# Altium footprint library RocketFPGA.PcbLib: 23 footprints (part 1 of 2)
Each footprint in its own frame and in the unit in brackets; x right, y up, seen from the top. Pads: shape width x height; smd on the part's side, far side on the other; paste and mask are expansions set on the pad; w line width, h text height; cw(c..) or ccw(c..) is an arc to the next point about the centre after c.
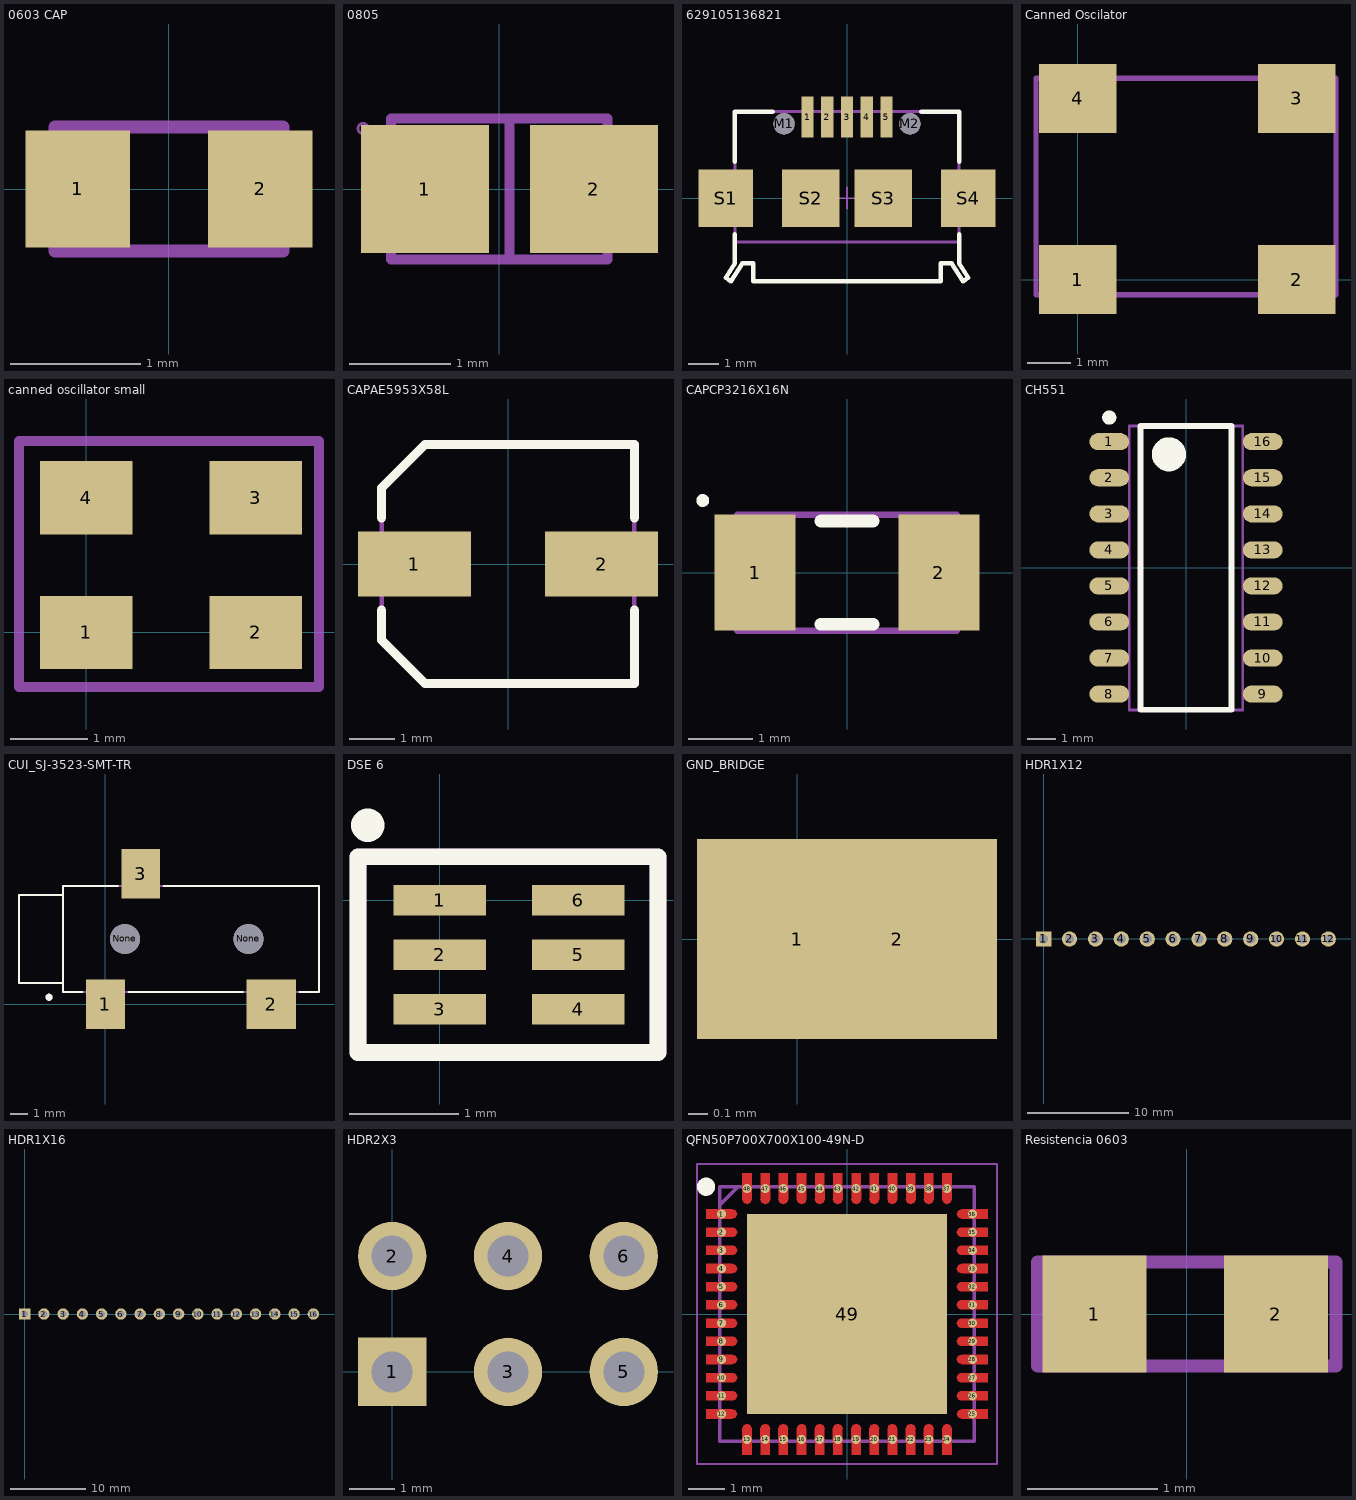
[diagram p0: the footprints below, top view; thin cyan lines are the x and y axes]

## 0603 CAP [mm] "Chip Capacitor, Body 1.6x0.8mm, IPC High Density"
height 1.3
pads (2):
  rect 0.8x0.9 smd: 1(-0.7,0) 2(0.7,0)
Assembly Top (Mech3):
  lines w0.1: -0.875,-0.475 0.875,-0.475 0.875,0.475 -0.875,0.475 -0.875,-0.475
  text "'.Designator'" at -0.584,-0.127 h0.25
3D body "User Library-SMD CAPACITOR0603.STEP": height 0.78, standoff -0.02, extent -0.8,-0.4 0.8,0.4

## 0805 [mil]
height 169.29
pads (2):
  rect 50x50 smd: 1(-29,0) 2(37,0)
Assembly Top (Mech3):
  circle w1: c-53.15,23.62 r2
  lines w3.94: 4,-27 4,27 ; -42.32,-27.56 42.32,-27.56 42.32,27.56 -42.32,27.56 -42.32,-27.56
  text "'.Designator'" at -20,-10 h20
3D body "CircuitWorks-RESISTOR 0805.step": height 16.93, standoff -1.18, extent -36.37,-24.61 42.37,25

## 629105136821 [mm] "Micro USB 2.0 SMT Type B Horizontal 5 Contacts"
height 3
pads (11):
  rect 0.4x1.35 smd: 1(-1.3,2.675) 2(-0.65,2.675) 3(0,2.675) 4(0.65,2.675) 5(1.3,2.675)
  round 0.7 hole 0.7 unplated: M1(-2.075,2.45) M2(2.075,2.45)
  rect 1.8x1.9 smd: S1(-4,0) S4(4,0)
  rect 1.9x1.9 smd: S2(-1.2,0) S3(1.2,0)
Top Overlay:
  lines w0.15: -3.7,-1.2 -3.7,-2.15 -4,-2.625 -3.825,-2.75 -3.45,-2.15 -3.1,-2.15 -3.1,-2.75 3.1,-2.75 3.1,-2.15 3.45,-2.15 3.825,-2.75 4,-2.625 3.7,-2.15 3.7,-1.2 ; -3.7,1.2 -3.7,2.85 -2.45,2.85 ; 2.45,2.85 3.7,2.85 3.7,1.2
Mechanical 1:
  lines w0.1: -3.7,-1.45 3.7,-1.45 ; -4,-2.625 -3.7,-2.15 -3.7,2.85 3.7,2.85 3.7,-2.15 4,-2.625 3.825,-2.75 3.45,-2.15 3.1,-2.15 3.1,-2.75 -3.1,-2.75 -3.1,-2.15 -3.45,-2.15 -3.825,-2.75 -4,-2.625
  text "PCB Edge" at -1.4,-2.1 h0.76
Assembly Top (Mech3):
  lines w0.1: -3.7,-1.45 3.7,-1.45 ; -4,-2.625 -3.7,-2.15 -3.7,2.85 3.7,2.85 3.7,-2.15 4,-2.625 3.825,-2.75 3.45,-2.15 3.1,-2.15 3.1,-2.75 -3.1,-2.75 -3.1,-2.15 -3.45,-2.15 -3.825,-2.75 -4,-2.625
  text "'.Designator'" at -2.311,-0.254 h1.52
Mechanical 15:
  lines w0.05: -0.35,0 0.35,0 ; 0,-0.35 0,0.35
3D body "629105136821.stp": height 2.77, standoff -0.53, extent -4,-2.73 4,3.173

## Canned Oscilator [mm]
pads (4):
  rect 1.8x1.6 smd: 1(0,0) 2(5.08,0) 3(5.08,4.2) 4(0,4.2)
Assembly Top (Mech3):
  lines w0.127: 5.918,4.648 cw(c5.944,4.648) 5.944,4.674 ; -0.965,-0.356 -0.965,4.674 5.994,4.674 5.994,-0.356 -0.965,-0.356
  text "'.Designator'" at 0.406,1.702 h1.52
3D body "User Library-CFPS-73.step": height 1.52, standoff 0, extent -1,-0.41 6,4.61

## canned oscillator small [mm] "SG-8018CG 49.1520M-TJHSA3"
pads (4):
  rect 1.2x0.95 smd: 1(0,0) 2(2.2,0) 3(2.2,1.75) 4(0,1.75)
Assembly Top (Mech3):
  lines w0.127: -0.876,-0.711 3.024,-0.711 3.024,2.489 -0.876,2.489 -0.876,-0.711

## CAPAE5953X58L [mm] "Aluminum Electrolytic Capacitor, Body 5.60x5.30x5.80mm, IPC High Density"
height 5.8
pads (2):
  rect 2.5x1.45 smd: 1(-2.075,0) 2(2.075,0)
Top Overlay:
  lines w0.2: -2.8,-1.025 -2.8,-1.687 -1.837,-2.65 2.8,-2.65 2.8,-1.025 ; -2.8,1.025 -2.8,1.687 -1.837,2.65 2.8,2.65 2.8,1.025
Assembly Top (Mech3):
  lines w0.1: -2.8,-1.687 -2.8,1.687 -1.837,2.65 2.8,2.65 2.8,-2.65 -1.837,-2.65 -2.8,-1.687
  text "'.Designator'" at -1.473,-0.686 h1.52
3D body: height 5.8, standoff 0, extent -2.5,-2.5 2.5,2.494
3D body: height 1.94, standoff 0, extent -2.8,-2.65 2.8,2.65

## CAPCP3216X16N [mm] "Chip Capacitor, 2-Leads, Body 3.20x1.60mm, IPC Medium Density"
height 1.6
pads (2):
  rect 1.25x1.8 smd: 1(-1.425,0) 2(1.425,0)
Top Overlay:
  circle w0.1: c-2.235,1.118 r0.05
  lines w0.2: -0.4,-0.8 0.4,-0.8 ; -0.4,0.8 0.4,0.8
Assembly Top (Mech3):
  lines w0.1: -1.7,-0.9 -1.7,0.9 1.7,0.9 1.7,-0.9 -1.7,-0.9
  text "'.Designator'" at -1.143,-0.533 h1.02
3D body: height 1.6, standoff 0, extent -1.7,-0.9 -1,0.9
3D body: height 1.6, standoff 0, extent -1,-0.9 1,0.9
3D body: height 1.6, standoff 0, extent 1,-0.9 1.7,0.9

## CH551 [mm] "MCU"
height 1.75
pads (16):
  oval 1.4x0.6 smd: 1(-2.7,4.445) 2(-2.7,3.175) 3(-2.7,1.905) 4(-2.7,0.635) 5(-2.7,-0.635) 6(-2.7,-1.905) 7(-2.7,-3.175) 8(-2.7,-4.445) 9(2.7,-4.445) 10(2.7,-3.175) 11(2.7,-1.905) 12(2.7,-0.635) 13(2.7,0.635) 14(2.7,1.905) 15(2.7,3.175) 16(2.7,4.445)
Top Overlay:
  circle w0.6: c-0.6,4 r0.3
  circle w0.25: c-2.7,5.295 r0.125
  lines w0.2: -1.6,-5 1.6,-5 1.6,5 -1.6,5 -1.6,-5
Top Solder:
  circle w0.1: c-1.1,4.1 r0.5
Assembly Top (Mech3):
  lines w0.1: -2,-5 2,-5 2,5 -2,5 -2,-5
  text "'.Designator'" at 0.762,-2.413 h1.52
3D body "CircuitWorks-SO-16.step": height 1.45, standoff 0, extent -3.035,-5.016 2.87,4.966
3D body: height 0.25, standoff 0, extent -6.756,7.518 -6.756,7.518

## CUI_SJ-3523-SMT-TR [mm] "mini jack"
pads (5):
  rect 2.2x2.8 smd: 1(0,0) 3(2,7.4)
  rect 2.8x2.8 smd: 2(9.4,0)
  round 1.7 hole 1.7 unplated: None(1.1,3.7) None(8.1,3.7)
Top Overlay:
  circle w0.2: c-3.2,0.4 r0.1
  lines w0.127: -1.3,0.7 -2.4,0.7 -2.4,1.2 ; 0.7,6.7 -2.4,6.7 -2.4,6.2 ; 1.3,0.7 7.8,0.7 ; 3.3,6.7 12.1,6.7 12.1,0.7 11,0.7 ; -2.4,1.2 -4.9,1.2 -4.9,6.2 -2.4,6.2 ; -2.4,1.2 -2.4,6.2
Assembly Top (Mech3):
  circle w0.2: c-3.2,0.4 r0.1
  circle w0.2: c-3.2,0.4 r0.1
  lines w0.127: -4.9,1.2 -4.9,6.2 ; -4.9,1.2 -4.9,6.2 ; -4.9,1.2 -2.4,1.2 -4.9,1.2 ; -4.9,6.2 -2.4,6.2 -4.9,6.2 ; -2.4,0.7 -2.4,6.7 ; -2.4,0.7 -2.4,6.7 ; -2.4,0.7 12.1,0.7 ; -2.4,0.7 12.1,0.7 ; -2.4,6.7 12.1,6.7 ; -2.4,6.7 12.1,6.7 ; 12.1,0.7 12.1,6.7 ; 12.1,0.7 12.1,6.7
  text "'.Designator'" at 0.313,3.116 h1.52
3D body "CUI_SJ-3523-SMT-TR.step": height 5, standoff -0.8, extent -4.835,-0.77 12.165,8.23

## DSE 6 [mm] "DSE PACKAGE"
pads (6):
  rect 0.85x0.28 smd mask+0.05: 1(0,0) 2(0,-0.5) 3(0,-1) 4(1.27,-1) 5(1.27,-0.5) 6(1.27,0)
Top Overlay:
  circle w0.254: c-0.66,0.686 r0.025
  lines w0.152: -0.737,0.398 -0.75,0.398 ; -0.75,0.398 -0.75,-1.397 2,-1.397 2,0.398 -0.75,0.398
Assembly Top (Mech3):
  lines w0.152: -0.737,0.398 -0.75,0.398 ; -0.75,0.398 2,0.398 2,-1.397 -0.75,-1.397 -0.75,0.398
  text "'.Designator'" at -0.102,-0.838 h0.76
3D body: height 0.8, standoff 0, extent -0.533,-1.245 1.854,0.254

## GND_BRIDGE [mil] "GND_BRIDGE"
pads (2):
  rect 40x40 smd: 1(0,0) 2(20,0)

## HDR1X12 [mm] "Connector; Header; 12 Position"
pads (12):
  rect 1.5x1.5 hole 0.9: 1(0,0)
  round 1.5 hole 0.9: 2(2.54,0) 3(5.08,0) 4(7.62,0) 5(10.16,0) 6(12.7,0) 7(15.24,0) 8(17.78,0) 9(20.32,0) 10(22.86,0) 11(25.4,0) 12(27.94,0)

## HDR1X16 [mm] "Connector; Header; 16 Position"
pads (16):
  rect 1.5x1.5 hole 0.9: 1(0,0)
  round 1.5 hole 0.9: 2(2.54,0) 3(5.08,0) 4(7.62,0) 5(10.16,0) 6(12.7,0) 7(15.24,0) 8(17.78,0) 9(20.32,0) 10(22.86,0) 11(25.4,0) 12(27.94,0) 13(30.48,0) 14(33.02,0) 15(35.56,0) 16(38.1,0)

## HDR2X3 [mm] "Connector; Header; 3x2 Position"
pads (6):
  rect 1.5x1.5 hole 0.9: 1(0,0)
  round 1.5 hole 0.9: 2(0,2.54) 3(2.54,0) 4(2.54,2.54) 5(5.08,0) 6(5.08,2.54)

## QFN50P700X700X100-49N-D [mm]
pads (49):
  round 0.25 smd: 1(-3.45,2.75) 2(-3.45,2.25) 3(-3.45,1.75) 4(-3.45,1.25) 5(-3.45,0.75) 6(-3.45,0.25) 7(-3.45,-0.25) 8(-3.45,-0.75) 9(-3.45,-1.25) 10(-3.45,-1.75) 11(-3.45,-2.25) 12(-3.45,-2.75) 13(-2.75,-3.45) 14(-2.25,-3.45) 15(-1.75,-3.45) 16(-1.25,-3.45) 17(-0.75,-3.45) 18(-0.25,-3.45) 19(0.25,-3.45) 20(0.75,-3.45) 21(1.25,-3.45) 22(1.75,-3.45) 23(2.25,-3.45) 24(2.75,-3.45) 25(3.45,-2.75) 26(3.45,-2.25) 27(3.45,-1.75) 28(3.45,-1.25) 29(3.45,-0.75) 30(3.45,-0.25) 31(3.45,0.25) 32(3.45,0.75) 33(3.45,1.25) 34(3.45,1.75) 35(3.45,2.25) 36(3.45,2.75) 37(2.75,3.45) 38(2.25,3.45) 39(1.75,3.45) 40(1.25,3.45) 41(0.75,3.45) 42(0.25,3.45) 43(-0.25,3.45) 44(-0.75,3.45) 45(-1.25,3.45) 46(-1.75,3.45) 47(-2.25,3.45) 48(-2.75,3.45)
  rrect0% 5.5x5.5 smd: 49(0,0)
Top Layer:
  region: -3.875,2.875 -3.15,2.885 -3.054,2.846 -3.015,2.75 -3.054,2.654 -3.15,2.615 -3.15,2.625 -3.875,2.625
  region: -3.875,2.375 -3.15,2.385 -3.054,2.346 -3.015,2.25 -3.054,2.154 -3.15,2.115 -3.15,2.125 -3.875,2.125
  region: -3.875,1.875 -3.15,1.885 -3.054,1.846 -3.015,1.75 -3.054,1.654 -3.15,1.615 -3.15,1.625 -3.875,1.625
  region: -3.875,1.375 -3.15,1.385 -3.054,1.346 -3.015,1.25 -3.054,1.154 -3.15,1.115 -3.15,1.125 -3.875,1.125
  region: -3.875,0.875 -3.15,0.885 -3.054,0.846 -3.015,0.75 -3.054,0.654 -3.15,0.615 -3.15,0.625 -3.875,0.625
  region: -3.875,0.375 -3.15,0.385 -3.054,0.346 -3.015,0.25 -3.054,0.154 -3.15,0.115 -3.15,0.125 -3.875,0.125
  region: -3.875,-0.125 -3.15,-0.115 -3.054,-0.154 -3.015,-0.25 -3.054,-0.346 -3.15,-0.385 -3.15,-0.375 -3.875,-0.375
  region: -3.875,-0.625 -3.15,-0.615 -3.054,-0.654 -3.015,-0.75 -3.054,-0.846 -3.15,-0.885 -3.15,-0.875 -3.875,-0.875
  region: -3.875,-1.125 -3.15,-1.115 -3.054,-1.154 -3.015,-1.25 -3.054,-1.346 -3.15,-1.385 -3.15,-1.375 -3.875,-1.375
  region: -3.875,-1.625 -3.15,-1.615 -3.054,-1.654 -3.015,-1.75 -3.054,-1.846 -3.15,-1.885 -3.15,-1.875 -3.875,-1.875
  region: -3.875,-2.125 -3.15,-2.115 -3.054,-2.154 -3.015,-2.25 -3.054,-2.346 -3.15,-2.385 -3.15,-2.375 -3.875,-2.375
  region: -3.875,-2.625 -3.15,-2.615 -3.054,-2.654 -3.015,-2.75 -3.054,-2.846 -3.15,-2.885 -3.15,-2.875 -3.875,-2.875
  region: -2.875,-3.875 -2.885,-3.15 -2.846,-3.054 -2.75,-3.015 -2.654,-3.054 -2.615,-3.15 -2.625,-3.15 -2.625,-3.875
  region: -2.375,-3.875 -2.385,-3.15 -2.346,-3.054 -2.25,-3.015 -2.154,-3.054 -2.115,-3.15 -2.125,-3.15 -2.125,-3.875
  region: -1.875,-3.875 -1.885,-3.15 -1.846,-3.054 -1.75,-3.015 -1.654,-3.054 -1.615,-3.15 -1.625,-3.15 -1.625,-3.875
  region: -1.375,-3.875 -1.385,-3.15 -1.346,-3.054 -1.25,-3.015 -1.154,-3.054 -1.115,-3.15 -1.125,-3.15 -1.125,-3.875
  region: -0.875,-3.875 -0.885,-3.15 -0.846,-3.054 -0.75,-3.015 -0.654,-3.054 -0.615,-3.15 -0.625,-3.15 -0.625,-3.875
  region: -0.375,-3.875 -0.385,-3.15 -0.346,-3.054 -0.25,-3.015 -0.154,-3.054 -0.115,-3.15 -0.125,-3.15 -0.125,-3.875
  region: 0.125,-3.875 0.115,-3.15 0.154,-3.054 0.25,-3.015 0.346,-3.054 0.385,-3.15 0.375,-3.15 0.375,-3.875
  region: 0.625,-3.875 0.615,-3.15 0.654,-3.054 0.75,-3.015 0.846,-3.054 0.885,-3.15 0.875,-3.15 0.875,-3.875
  region: 1.125,-3.875 1.115,-3.15 1.154,-3.054 1.25,-3.015 1.346,-3.054 1.385,-3.15 1.375,-3.15 1.375,-3.875
  region: 1.625,-3.875 1.615,-3.15 1.654,-3.054 1.75,-3.015 1.846,-3.054 1.885,-3.15 1.875,-3.15 1.875,-3.875
  region: 2.125,-3.875 2.115,-3.15 2.154,-3.054 2.25,-3.015 2.346,-3.054 2.385,-3.15 2.375,-3.15 2.375,-3.875
  region: 2.625,-3.875 2.615,-3.15 2.654,-3.054 2.75,-3.015 2.846,-3.054 2.885,-3.15 2.875,-3.15 2.875,-3.875
  region: 3.875,-2.875 3.15,-2.885 3.054,-2.846 3.015,-2.75 3.054,-2.654 3.15,-2.615 3.15,-2.625 3.875,-2.625
  region: 3.875,-2.375 3.15,-2.385 3.054,-2.346 3.015,-2.25 3.054,-2.154 3.15,-2.115 3.15,-2.125 3.875,-2.125
  region: 3.875,-1.875 3.15,-1.885 3.054,-1.846 3.015,-1.75 3.054,-1.654 3.15,-1.615 3.15,-1.625 3.875,-1.625
  region: 3.875,-1.375 3.15,-1.385 3.054,-1.346 3.015,-1.25 3.054,-1.154 3.15,-1.115 3.15,-1.125 3.875,-1.125
  region: 3.875,-0.875 3.15,-0.885 3.054,-0.846 3.015,-0.75 3.054,-0.654 3.15,-0.615 3.15,-0.625 3.875,-0.625
  region: 3.875,0.125 3.15,0.115 3.054,0.154 3.015,0.25 3.054,0.346 3.15,0.385 3.15,0.375 3.875,0.375
  region: 3.875,0.625 3.15,0.615 3.054,0.654 3.015,0.75 3.054,0.846 3.15,0.885 3.15,0.875 3.875,0.875
  region: 3.875,1.125 3.15,1.115 3.054,1.154 3.015,1.25 3.054,1.346 3.15,1.385 3.15,1.375 3.875,1.375
  region: 3.875,1.625 3.15,1.615 3.054,1.654 3.015,1.75 3.054,1.846 3.15,1.885 3.15,1.875 3.875,1.875
  region: 3.875,2.125 3.15,2.115 3.054,2.154 3.015,2.25 3.054,2.346 3.15,2.385 3.15,2.375 3.875,2.375
  region: 3.875,2.625 3.15,2.615 3.054,2.654 3.015,2.75 3.054,2.846 3.15,2.885 3.15,2.875 3.875,2.875
  region: 2.875,3.875 2.885,3.15 2.846,3.054 2.75,3.015 2.654,3.054 2.615,3.15 2.625,3.15 2.625,3.875
  region: 2.375,3.875 2.385,3.15 2.346,3.054 2.25,3.015 2.154,3.054 2.115,3.15 2.125,3.15 2.125,3.875
  region: 1.875,3.875 1.885,3.15 1.846,3.054 1.75,3.015 1.654,3.054 1.615,3.15 1.625,3.15 1.625,3.875
  region: 1.375,3.875 1.385,3.15 1.346,3.054 1.25,3.015 1.154,3.054 1.115,3.15 1.125,3.15 1.125,3.875
  region: 0.875,3.875 0.885,3.15 0.846,3.054 0.75,3.015 0.654,3.054 0.615,3.15 0.625,3.15 0.625,3.875
  region: 0.375,3.875 0.385,3.15 0.346,3.054 0.25,3.015 0.154,3.054 0.115,3.15 0.125,3.15 0.125,3.875
  region: -0.125,3.875 -0.115,3.15 -0.154,3.054 -0.25,3.015 -0.346,3.054 -0.385,3.15 -0.375,3.15 -0.375,3.875
  region: -0.625,3.875 -0.615,3.15 -0.654,3.054 -0.75,3.015 -0.846,3.054 -0.885,3.15 -0.875,3.15 -0.875,3.875
  region: -1.125,3.875 -1.115,3.15 -1.154,3.054 -1.25,3.015 -1.346,3.054 -1.385,3.15 -1.375,3.15 -1.375,3.875
  region: -1.625,3.875 -1.615,3.15 -1.654,3.054 -1.75,3.015 -1.846,3.054 -1.885,3.15 -1.875,3.15 -1.875,3.875
  region: -2.125,3.875 -2.115,3.15 -2.154,3.054 -2.25,3.015 -2.346,3.054 -2.385,3.15 -2.375,3.15 -2.375,3.875
  region: -2.625,3.875 -2.615,3.15 -2.654,3.054 -2.75,3.015 -2.846,3.054 -2.885,3.15 -2.875,3.15 -2.875,3.875
  region: 3.875,-0.383 3.15,-0.393 3.054,-0.354 3.015,-0.258 3.054,-0.162 3.152,-0.122 3.875,-0.132
Top Overlay:
  circle w0.25: c-3.875,3.5 r0.125
Assembly Top (Mech3):
  lines w0.1: -3.5,3 -3,3.5 ; -3.5,-3.5 -3.5,3.5 3.5,3.5 3.5,-3.5 -3.5,-3.5
  text "'.Designator'" at -1.905,-0.432 h1.52
Mechanical 20:
  lines w0.05: -4.125,-4.125 4.125,-4.125 4.125,4.125 -4.125,4.125 -4.125,-4.125
3D body "ICE40UP5K-SG48ITR.stp": height 1, standoff 0, extent -3.55,-3.55 3.55,3.55

## Resistencia 0603 [mm] "Chip Resistor, 2-Leads, Body 2,30x0,80mm, IPC Medium Density"
height 0.6
pads (2):
  rect 0.8x0.9 smd: 1(-0.713,0) 2(0.687,0)
Assembly Top (Mech3):
  lines w0.1: -1.15,-0.4 -1.15,0.4 1.15,0.4 1.15,-0.4 -1.15,-0.4
  text "'.Designator'" at -0.635,-0.254 h0.5
3D body "Resistencia 0603.step": height 0.6, standoff 0, extent -1.15,-0.4 1.15,0.4